# EAGLE library part SWITCH_SPDT2 (library dooba)
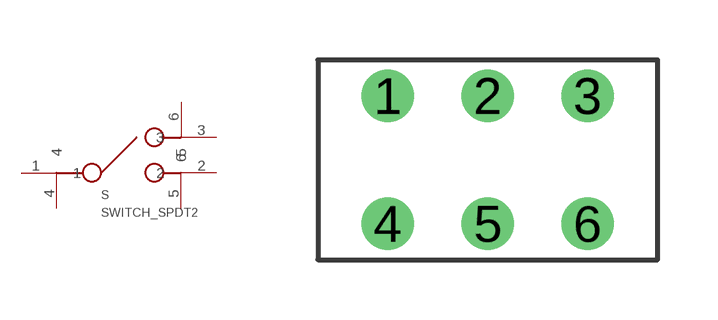
[diagram p57: symbol with the pads of EG1271; footprint EG1271]

Designator prefix S

## SWITCH_SPDT2EG1271  [EG1271]
1  1
2  2
3  3
4  4
5  5
6  6

## Footprint EG1271 (pad centres in mm)
drill 0.8: 1 -2.5,1.6; 2 0,1.6; 3 2.5,1.6; 4 -2.5,-1.6; 5 0,-1.6; 6 2.5,-1.6